# Altium footprint library ConnectorsLib.PcbLib: 142 footprints (part 7 of 9)
Each footprint in its own frame and in the unit in brackets; x right, y up, seen from the top. Pads: shape width x height; smd on the part's side, far side on the other; paste and mask are expansions set on the pad; w line width, h text height; cw(c..) or ccw(c..) is an arc to the next point about the centre after c.
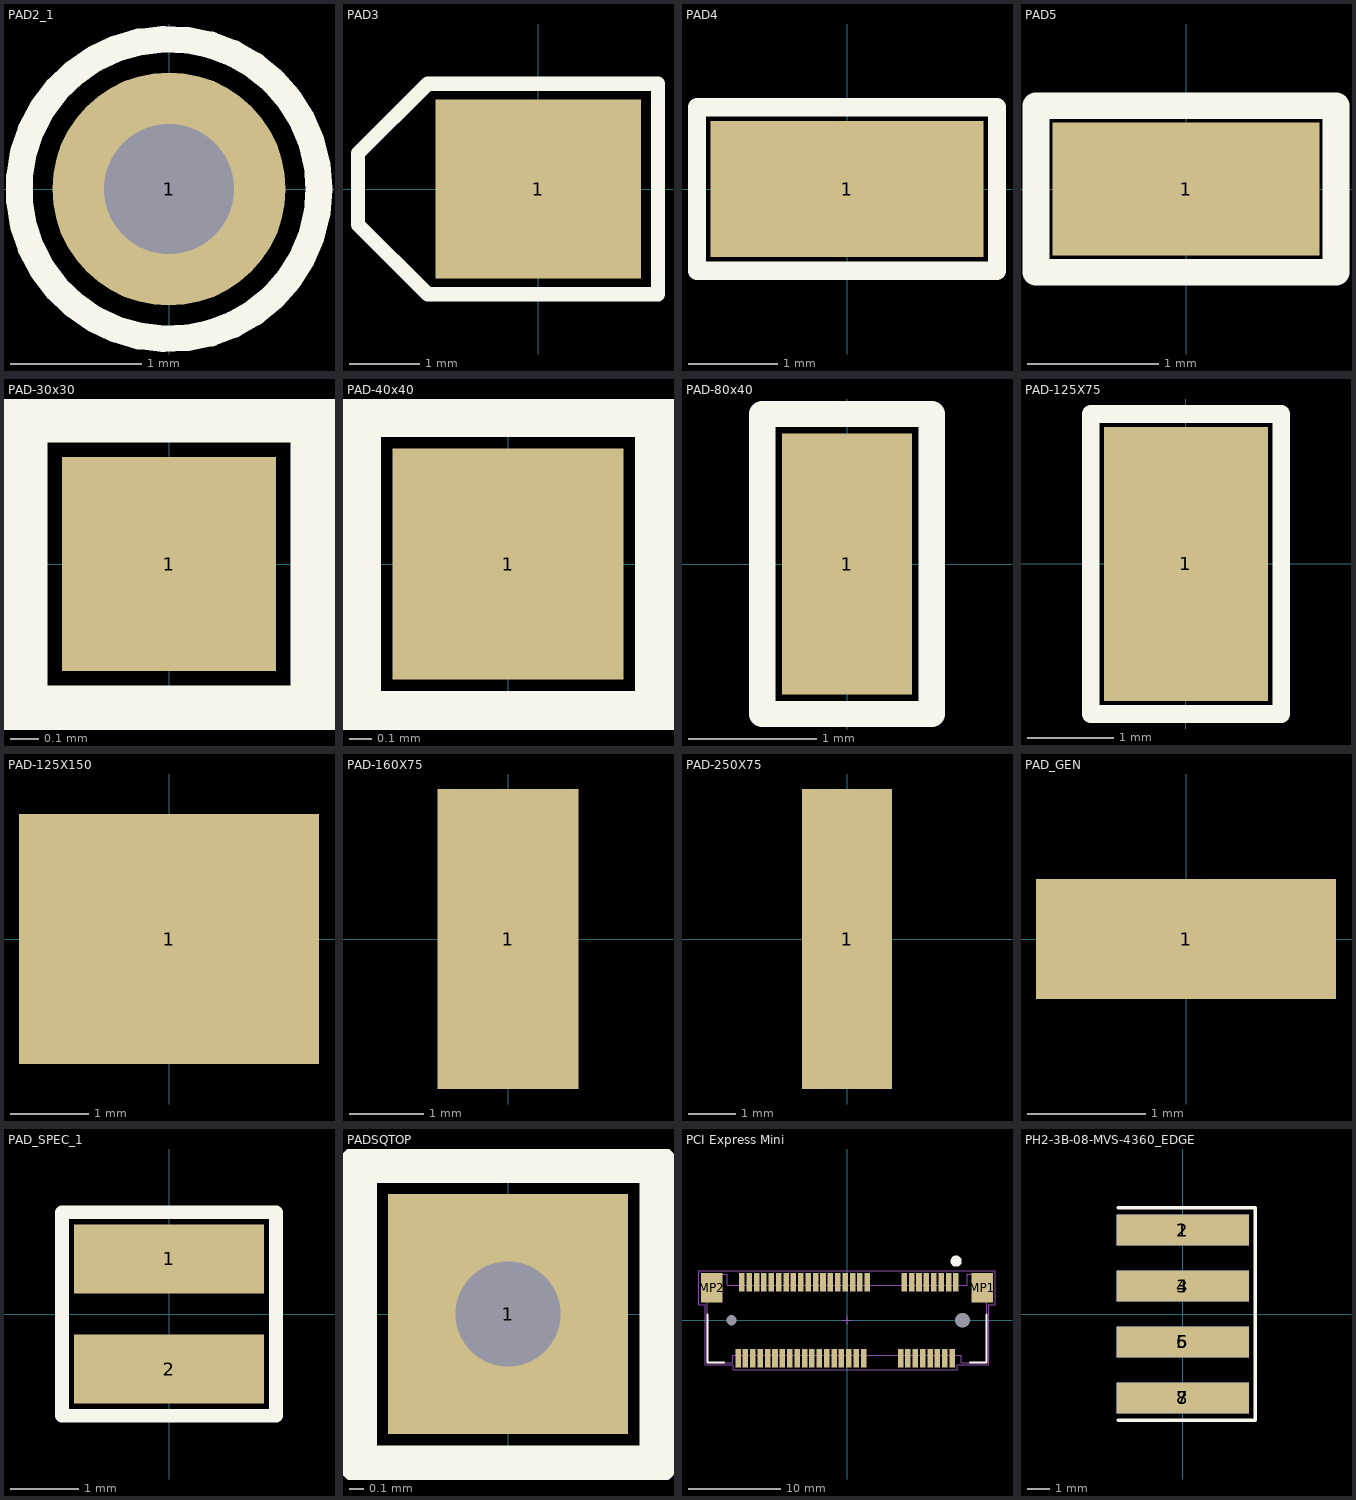
[diagram p6: the footprints below, top view; thin cyan lines are the x and y axes]

## PAD2_1 [mil]
pads (1):
  round 70 hole 39: 1(0,0)
Top Overlay:
  circle w8: c0,0 r45

## PAD3 [mil]
pads (1):
  rect 115x100 smd: 1(0,0)
Top Overlay:
  lines w8: -101,-20 -62,-59 67,-59 67,59 -62,59 -101,20 -101,-20

## PAD4 [mil]
pads (1):
  rect 120x60 smd: 1(0,0)
Top Overlay:
  lines w8: -66,-36 -66,36 66,36 66,-36 -66,-36

## PAD5 [mil]
pads (1):
  rect 80x40 smd: 1(0,0)
Top Overlay:
  lines w8: -45,-25 45,-25 45,25 -45,25 -45,-25

## PAD-30x30 [mil]
pads (1):
  rect 30x30 smd: 1(0,0)
Top Overlay:
  lines w8: -21,-21 21,-21 21,21 -21,21 -21,-21

## PAD-40x40 [mil]
pads (1):
  rect 40x40 smd: 1(0,0)
Top Overlay:
  lines w8: -26,-26 26,-26 26,26 -26,26 -26,-26

## PAD-80x40 [mil]
pads (1):
  rect 40x80 smd: 1(0,0)
Top Overlay:
  lines w8: -26,-46 26,-46 26,46 -26,46 -26,-46

## PAD-125X75 [mil]
pads (1):
  rect 75x125 smd: 1(0,0)
Top Overlay:
  lines w8: -43.5,-68.5 43.5,-68.5 43.5,68.5 -43.5,68.5 -43.5,-68.5

## PAD-125X150 [mil]
pads (1):
  rect 150x125 smd: 1(0,0)

## PAD-160X75 [mil]
pads (1):
  rect 75x160 smd: 1(0,0)

## PAD-250X75 [mil]
pads (1):
  rect 75x250 smd: 1(0,0)

## PAD_GEN [mil]
pads (1):
  rect 100x40 smd: 1(0,0)

## PAD_SPEC_1 [mil]
pads (2):
  rect 110x40 smd: 1(0,32) 2(0,-32)
Top Overlay:
  lines w8: -62,-59 62,-59 62,59 -62,59 -62,-59

## PADSQTOP [mil]
pads (1):
  rect 64x64 on Top hole 28: 1(0,0)
Top Overlay:
  lines w10: -40,-40 -40,40 40,40 40,-40 -40,-40

## PCI Express Mini [mm] "CONN MINI PCI .8MM 52POS RA .226"
pads (56):
  rect 0.6x2 smd: 1(11.8,4.1) 2(11.4,-4.1) 3(11,4.1) 4(10.6,-4.1) 5(10.2,4.1) 6(9.8,-4.1) 7(9.4,4.1) 8(9,-4.1) 9(8.6,4.1) 10(8.2,-4.1) 11(7.8,4.1) 12(7.4,-4.1) 13(7,4.1) 14(6.6,-4.1) 15(6.2,4.1) 16(5.8,-4.1) 17(2.2,4.1) 18(1.8,-4.1) 19(1.4,4.1) 20(1,-4.1) 21(0.6,4.1) 22(0.2,-4.1) 23(-0.2,4.1) 24(-0.6,-4.1) 25(-1,4.1) 26(-1.4,-4.1) 27(-1.8,4.1) 28(-2.2,-4.1) 29(-2.6,4.1) 30(-3,-4.1) 31(-3.4,4.1) 32(-3.8,-4.1) 33(-4.2,4.1) 34(-4.6,-4.1) 35(-5,4.1) 36(-5.4,-4.1) 37(-5.8,4.1) 38(-6.2,-4.1) 39(-6.6,4.1) 40(-7,-4.1) 41(-7.4,4.1) 42(-7.8,-4.1) 43(-8.2,4.1) 44(-8.6,-4.1) 45(-9,4.1) 46(-9.4,-4.1) 47(-9.8,4.1) 48(-10.2,-4.1) 49(-10.6,4.1) 50(-11,-4.1) 51(-11.4,4.1) 52(-11.8,-4.1)
  round 1.3 hole 1.6 unplated: MH1(12.5,0)
  round 0.8 hole 1.1 unplated: MH2(-12.5,0)
  rect 2.3x3.2 smd: MP1(14.65,3.5) MP2(-14.65,3.5)
Top Overlay:
  circle w0.6: c11.815,6.388 r0.3
  lines w0.2: -15.125,-4.6 -13.329,-4.6 ; -15.125,-4.535 -15.125,0.645 ; 13.338,-4.6 14.907,-4.6 15.125,-4.6 15.125,0.633
Mechanical 13:
  lines w0.1: -15.125,3.796 -15.125,-4.535 -15.125,-4.6 -12.375,-4.6 ; -15.125,3.8 -14.025,3.8 ; -14.025,3.804 -14.025,4.985 -14.01,5 -13,5 -13,3.8 13,3.8 13,5 14.027,5 ; -12.375,-4.601 -12.375,-3.8 12.375,-3.8 ; 12.375,-3.799 12.375,-4.599 14.907,-4.6 15.125,-4.6 15.125,3.798 ; 14.025,3.8 15.125,3.8 ; 14.025,3.822 14.025,5
Mechanical 15:
  lines w0.1: -0.5,0 0.5,0 ; 0,-0.5 0,0.5 ; -16.05,1.65 -16.05,5.35 16.05,5.35 16.05,1.65 15.375,1.65 15.375,-4.85 11.95,-4.85 11.95,-5.35 -12.35,-5.35 -12.35,-4.85 -15.375,-4.85 -15.375,1.65 -16.05,1.65
3D body: height 3.12, standoff 0, extent -15,-3.8 15,3.7
3D body: height 5.6, standoff 3.12, extent -15,-3.677 15,3.7
3D body: height 5.6, standoff 4.54, extent -13.79,3.7 -12.1,5
3D body: height 5.6, standoff 4.54, extent 12.1,3.7 13.79,5
3D body: height 1.34, standoff 0.69, extent 12.1,3.7 13.79,4.25
3D body: height 1.34, standoff 0.69, extent -13.79,3.7 -12.1,4.25
3D body: height 0.82, standoff 0.2, extent 12.35,-4.5 15,-3.7
3D body: height 0.82, standoff 0.2, extent -15,-4.5 -15,-4.5
3D body: height 0.82, standoff 0.2, extent -15,-4.5 -12.35,-3.8

## PH2-3B-08-MVS-4360_EDGE [mm] "8 Position Spring Piston Connector Through Hole, Solder Cup"
height 8
pads (8):
  rect 6x1.4 smd: 1(0,3.81) 3(0,1.27) 5(0,-1.27) 7(0,-3.81)
  rect 6x1.4 smd far side: 2(0,3.81) 4(0,1.27) 6(0,-1.27) 8(0,-3.81)
Top Overlay:
  lines w0.152: -2.921,-4.826 3.302,-4.826 3.302,4.826 -2.921,4.826
Bottom Overlay:
  lines w0.152: -2.921,-4.826 3.302,-4.826 3.302,4.826 -2.921,4.826
3D body: height 2.86, standoff -0.32, extent -12.827,-2.984 2.388,0.19
3D body: height -0.32, standoff -3.49, extent -12.827,-2.984 2.388,0.19
3D body: height 2.86, standoff -0.32, extent -12.827,-0.444 2.388,2.73
3D body: height 2.86, standoff -0.32, extent -12.827,2.096 2.388,5.27
3D body: height -0.32, standoff -3.49, extent -12.827,2.096 2.388,5.27
3D body: height -0.32, standoff -3.49, extent -12.827,-0.444 2.388,2.73
3D body: height 2.86, standoff -0.32, extent -12.827,-5.524 2.388,-2.35
3D body: height -0.32, standoff -3.49, extent -12.827,-5.524 2.388,-2.35
3D body: height 3.81, standoff -3.81, extent -7.366,-6.35 -4.191,6.35
3D body: height 0.25, standoff 0, extent 4.318,-0.762 4.318,-0.762
3D body: height 0.25, standoff 0, extent -2.413,6.35 -2.413,6.35